# Altium schematic symbol library IGBT.Schlib: 4 symbols
Pins are listed as number, name and electrical type; pins without a type are passive.

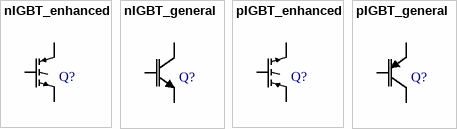
[diagram p0: symbols nIGBT_enhanced to pIGBT_general]

## nIGBT_enhanced
designator Q?
NPN General-purpose Transistor
pins: 1 G, 2 E, 3 C

## nIGBT_general
designator Q?
NPN General-purpose Transistor
pins: 1 B, 2 E, 3 C

## pIGBT_enhanced
designator Q?
NPN General-purpose Transistor
pins: 1 G, 2 E, 3 C

## pIGBT_general
designator Q?
NPN General-purpose Transistor
pins: 1 B, 2 E, 3 C